# Altium footprint library Sensor.PcbLib: 20 footprints (part 2 of 2)
Each footprint in its own frame and in the unit in brackets; x right, y up, seen from the top. Pads: shape width x height; smd on the part's side, far side on the other; paste and mask are expansions set on the pad; w line width, h text height; cw(c..) or ccw(c..) is an arc to the next point about the centre after c.
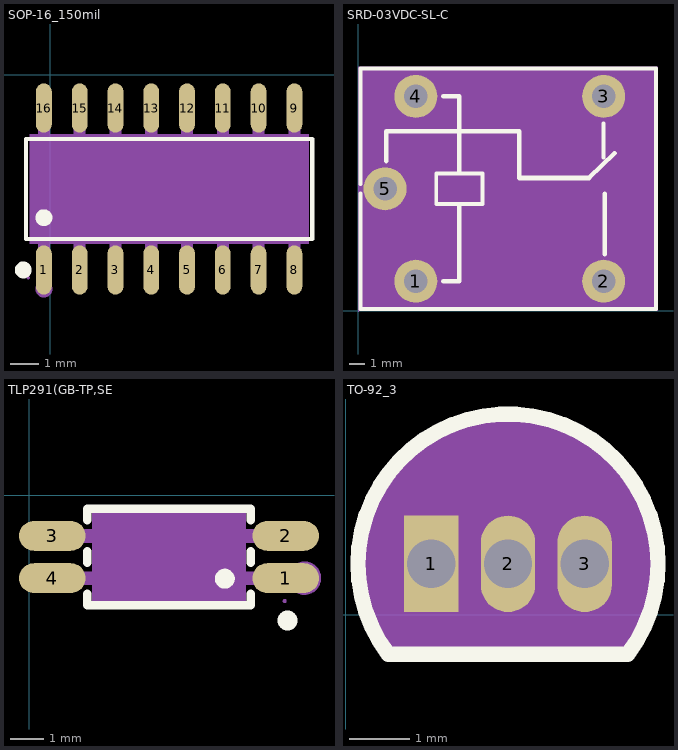
[diagram p1: the footprints below, top view; thin cyan lines are the x and y axes]

## SOP-16_150mil [mm]
pads (16):
  oval 0.56x1.745 smd: 1(-0.235,-6.925) 2(1.035,-6.925) 3(2.305,-6.925) 4(3.575,-6.925) 5(4.845,-6.925) 6(6.115,-6.925) 7(7.385,-6.925) 8(8.655,-6.925) 9(8.655,-1.18) 10(7.385,-1.18) 11(6.115,-1.18) 12(4.845,-1.18) 13(3.575,-1.18) 14(2.305,-1.18) 15(1.035,-1.18) 16(-0.235,-1.18)
Top Overlay:
  circle w0.3: c-0.235,-5.072 r0.15
  circle w0.3: c-0.967,-6.925 r0.15
  lines w0.152: -0.866,-5.824 -0.866,-2.281 9.286,-2.281 9.286,-5.824 -0.866,-5.824
Mechanical 4:
  region: -0.74,-6.003 -0.74,-2.103 9.16,-2.103 9.16,-6.003
Mechanical 5:
  pour cut-out: 8.45,-2.113 8.45,-1.878 8.86,-1.878 8.86,-2.113
  region: 8.45,-1.888 8.45,-1.053 8.86,-1.053 8.86,-1.888
  pour cut-out: 7.18,-2.113 7.18,-1.878 7.59,-1.878 7.59,-2.113
  region: 7.18,-1.888 7.18,-1.053 7.59,-1.053 7.59,-1.888
  pour cut-out: 5.91,-2.113 5.91,-1.878 6.32,-1.878 6.32,-2.113
  region: 5.91,-1.888 5.91,-1.053 6.32,-1.053 6.32,-1.888
  pour cut-out: 4.64,-2.113 4.64,-1.878 5.05,-1.878 5.05,-2.113
  region: 4.64,-1.888 4.64,-1.053 5.05,-1.053 5.05,-1.888
  pour cut-out: 3.37,-2.113 3.37,-1.878 3.78,-1.878 3.78,-2.113
  region: 3.37,-1.888 3.37,-1.053 3.78,-1.053 3.78,-1.888
  pour cut-out: 2.1,-2.113 2.1,-1.878 2.51,-1.878 2.51,-2.113
  region: 2.1,-1.888 2.1,-1.053 2.51,-1.053 2.51,-1.888
  pour cut-out: 0.83,-2.113 0.83,-1.878 1.24,-1.878 1.24,-2.113
  region: 0.83,-1.888 0.83,-1.053 1.24,-1.053 1.24,-1.888
  pour cut-out: -0.44,-2.113 -0.44,-1.878 -0.03,-1.878 -0.03,-2.113
  region: -0.44,-1.888 -0.44,-1.053 -0.03,-1.053 -0.03,-1.888
  pour cut-out: 8.45,-6.228 8.45,-5.993 8.86,-5.993 8.86,-6.228
  region: 8.45,-7.053 8.45,-6.218 8.86,-6.218 8.86,-7.053
  pour cut-out: 7.18,-6.228 7.18,-5.993 7.59,-5.993 7.59,-6.228
  region: 7.18,-7.053 7.18,-6.218 7.59,-6.218 7.59,-7.053
  pour cut-out: 5.91,-6.228 5.91,-5.993 6.32,-5.993 6.32,-6.228
  region: 5.91,-7.053 5.91,-6.218 6.32,-6.218 6.32,-7.053
  pour cut-out: 4.64,-6.228 4.64,-5.993 5.05,-5.993 5.05,-6.228
  region: 4.64,-7.053 4.64,-6.218 5.05,-6.218 5.05,-7.053
  pour cut-out: 3.37,-6.228 3.37,-5.993 3.78,-5.993 3.78,-6.228
  region: 3.37,-7.053 3.37,-6.218 3.78,-6.218 3.78,-7.053
  pour cut-out: 2.1,-6.228 2.1,-5.993 2.51,-5.993 2.51,-6.228
  region: 2.1,-7.053 2.1,-6.218 2.51,-6.218 2.51,-7.053
  pour cut-out: 0.83,-6.228 0.83,-5.993 1.24,-5.993 1.24,-6.228
  region: 0.83,-7.053 0.83,-6.218 1.24,-6.218 1.24,-7.053
  pour cut-out: -0.44,-6.228 -0.44,-5.993 -0.03,-5.993 -0.03,-6.228
  region: -0.44,-7.053 -0.44,-6.218 -0.03,-6.218 -0.03,-7.053
Mechanical 6:
  circle w0.06: c-0.79,-7.203 r0.03
Mechanical 15:
  circle w0.3: c-0.235,-7.603 r0.15

## SRD-03VDC-SL-C [mil] "蓝色 3V 继电器"
pads (5):
  round 110 hole 60: 1(146.88,76.05) 2(627.2,76.07) 3(627.2,548.47) 4(146.88,548.49) 5(68.14,312.27)
Top Overlay:
  lines w10: 5.18,300.67 5.18,5.18 761.1,5.18 761.1,619.36 5.18,619.36 5.18,323.87 ; 627.17,391.77 627.17,479.47 ; 199.05,272.9 199.05,351.64 317.16,351.64 317.16,272.9 199.05,272.9
  lines w11.81: 70.83,383.14 70.83,459.01 410.83,459.01 410.83,340.9 411.78,339.95 569.89,339.95 589.89,339.95 ; 217.36,76.05 257.43,76.05 257.43,270.88 ; 217.36,548.49 257.43,548.49 257.43,353.64 ; 589.8,339.87 654.78,403.17 ; 629.89,144.67 629.89,299.97
Mechanical 4:
  region: 0.18,624.36 766.1,624.36 766.1,0.18 0.18,0.18
Mechanical 5:
  circle w26.06: c627.2,548.47 r13.03
  circle w26.06: c146.88,76.05 r13.03
  circle w26.06: c146.88,548.49 r13.03
  circle w26.06: c68.14,312.27 r13.03
  circle w26.06: c627.2,76.07 r13.03
Mechanical 6:
  circle w2.36: c0.18,0.18 r1.18
Mechanical 15:
  lines w0.1: 381.55,503.06 383.55,505.06

## TLP291(GB-TP,SE [mm] "光耦"
pads (4):
  oval 2x0.9 smd: 1(7.695,-2.492) 2(7.695,-1.222) 3(0.695,-1.222) 4(0.695,-2.492)
Top Overlay:
  lines w0.254: 1.745,-2.953 1.745,-3.307 6.645,-3.307 6.645,-2.953 ; 1.745,-2.03 1.745,-1.683 ; 1.745,-0.76 1.745,-0.407 6.645,-0.407 6.645,-0.76 ; 6.645,-2.03 6.645,-1.683
  lines w0.3: 5.867,-2.658 cw(c5.868,-2.508) 5.87,-2.658 ; 7.75,-3.912 cw(c7.751,-3.762) 7.752,-3.912
Mechanical 4:
  region: 1.895,-3.207 1.895,-0.507 6.495,-0.507 6.495,-3.207
Mechanical 5:
  region: 6.995,-2.692 6.995,-2.292 7.695,-2.292 7.695,-2.692
  pour cut-out: 6.385,-2.692 6.385,-2.292 7.005,-2.292 7.005,-2.692
  region: 6.995,-1.422 6.995,-1.022 7.695,-1.022 7.695,-1.422
  pour cut-out: 6.385,-1.422 6.385,-1.022 7.005,-1.022 7.005,-1.422
  region: 0.695,-1.422 0.695,-1.022 1.395,-1.022 1.395,-1.422
  pour cut-out: 1.385,-1.422 1.385,-1.022 2.005,-1.022 2.005,-1.422
  region: 0.695,-2.692 0.695,-2.292 1.395,-2.292 1.395,-2.692
  pour cut-out: 1.385,-2.692 1.385,-2.292 2.005,-2.292 2.005,-2.692
Mechanical 6:
  circle w0.06: c7.665,-3.177 r0.03
Mechanical 15:
  circle w0.5: c8.259,-2.492 r0.25

## TO-92_3 [mm] "s8050"
pads (3):
  rect 0.9x1.6 hole 0.8: 1(1.417,0.839)
  oval 0.9x1.6 hole 0.8: 2(2.687,0.839) 3(3.957,0.839)
Top Overlay:
  lines w0.254: 0.706,-0.662 cw(c2.687,0.837) 4.668,-0.662 ; 0.707,-0.66 4.667,-0.66
Mechanical 4:
  region: 0.707,-0.66 4.667,-0.66 4.876,-0.318 5.03,0.045 5.144,0.442 5.171,0.839 5.171,0.958 5.171,1.19 5.081,1.646 4.903,2.075 4.644,2.462 4.316,2.791 3.929,3.049 3.5,3.227 3.044,3.318 2.811,3.318 2.561,3.318 2.329,3.318 1.874,3.227 1.445,3.05 1.06,2.792 0.732,2.464 0.474,2.079 0.297,1.65 0.206,1.195 0.206,0.963 0.206,0.843 0.203,0.839 0.221,0.632 0.245,0.434 0.288,0.241 0.347,0.049 0.422,-0.146 0.506,-0.316
Mechanical 5:
  circle w0.225: c1.417,0.839 r0.113
  circle w0.225: c2.687,0.839 r0.113
  circle w0.225: c3.957,0.839 r0.113
Mechanical 6:
  circle w0.2: c0.831,-0.33 r0.099
Mechanical 15:
  circle w0.3: c1.363,-0.343 r0.15